# Altium footprint library L(pol).PcbLib: 1 footprints
Each footprint in its own frame and in the unit in brackets; x right, y up, seen from the top. Pads: shape width x height; smd on the part's side, far side on the other; paste and mask are expansions set on the pad; w line width, h text height; cw(c..) or ccw(c..) is an arc to the next point about the centre after c.
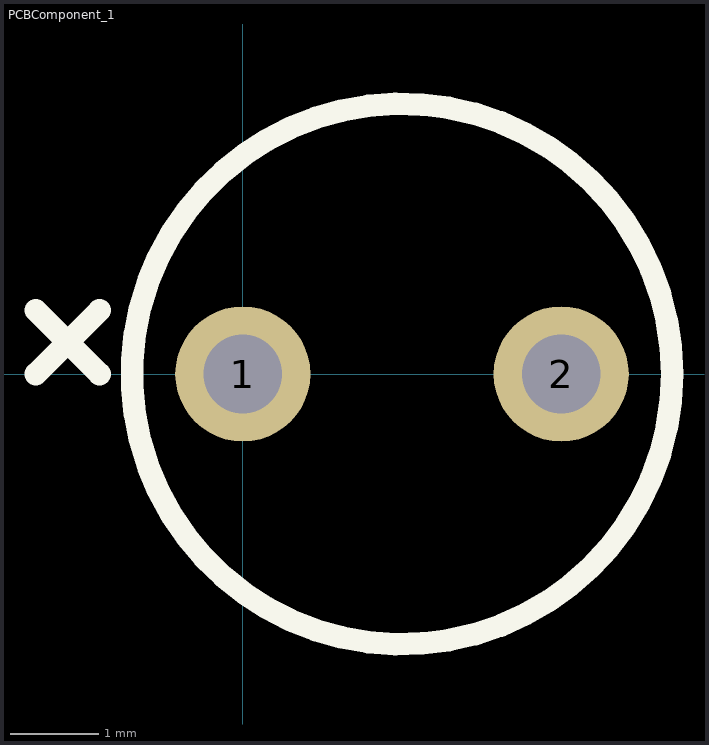
[diagram p0: the footprint, top view; thin cyan lines are the x and y axes]

## PCBComponent_1 [mil]
pads (2):
  round 60 hole 35: 1(0,0) 2(141.42,0)
Top Overlay:
  circle w10: c70.71,0 r120
  lines w10: -91.92,0 -63.64,28.28 ; -91.92,28.28 -63.64,0